# EAGLE library part RN2483 (library Octanis1)
Microchip Low-Power Long Range LoRaTM Technology Transceiver Module
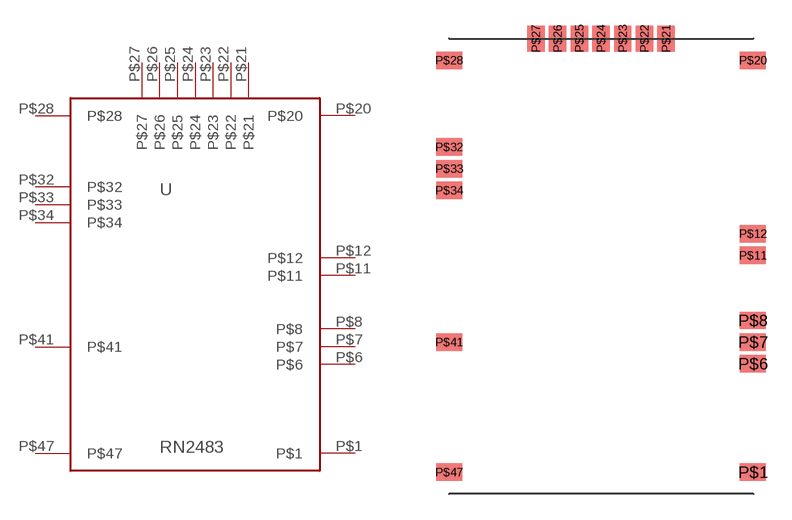
[diagram p1: symbol with the pads of RN2483; footprint RN2483]

Designator prefix U

## RN2483 (VALUE: RN2483)  [RN2483]
P$1  P$1
P$6  P$6
P$7  P$7
P$8  P$8
P$11  P$11
P$12  P$12
P$20  P$20
P$21  P$21
P$22  P$22
P$23  P$23
P$24  P$24
P$25  P$25
P$26  P$26
P$27  P$27
P$28  P$28
P$32  P$32
P$33  P$33
P$34  P$34
P$41  P$41
P$47  P$47

## Footprint RN2483 (pad centres in mm)
smd 1.524 x 1.016: P$1 17.78,1.27; P$6 17.78,7.62; P$7 17.78,8.89; P$8 17.78,10.16; P$11 17.78,13.97; P$12 17.78,15.24; P$20 17.78,25.4; P$28 0,25.4; P$32 0,20.32; P$33 0,19.05; P$34 0,17.78; P$41 0,8.89; P$47 0,1.27
smd 1.016 x 1.524: P$21 12.7,26.67; P$22 11.43,26.67; P$23 10.16,26.67; P$24 8.89,26.67; P$25 7.62,26.67; P$26 6.35,26.67; P$27 5.08,26.67